# Altium footprint library Crystals.PcbLib: 1 footprints
Each footprint in its own frame and in the unit in brackets; x right, y up, seen from the top. Pads: shape width x height; smd on the part's side, far side on the other; paste and mask are expansions set on the pad; w line width, h text height; cw(c..) or ccw(c..) is an arc to the next point about the centre after c.
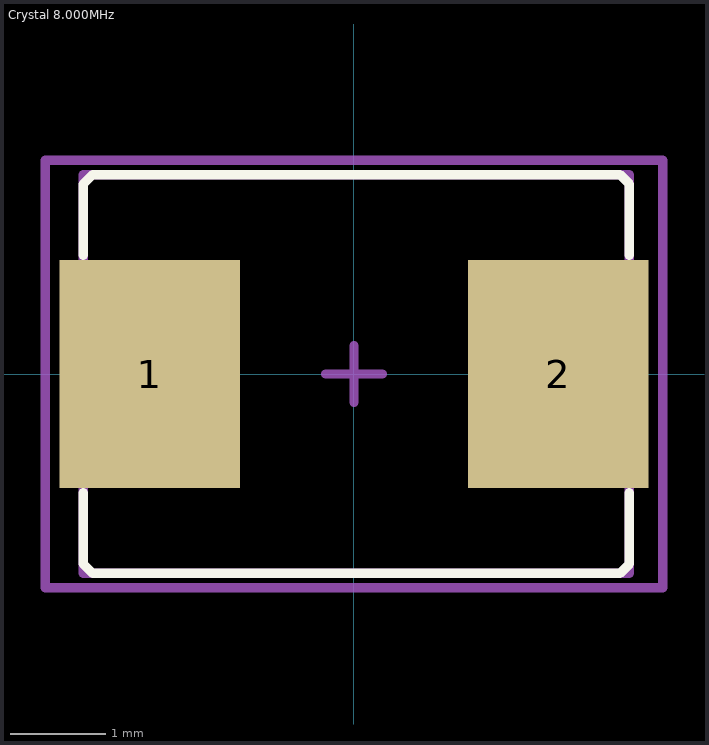
[diagram p0: the footprint, top view; thin cyan lines are the x and y axes]

## Crystal 8.000MHz [mm] "18pF ABM3"
pads (2):
  rect 1.9x2.4 smd mask+0.05: 1(-2.15,0) 2(2.15,0)
Top Overlay:
  lines w0.1: -2.85,-1.25 -2.85,-2 -2.75,-2.1 2.8,-2.1 2.9,-2 2.9,-1.25 ; -2.85,1.25 -2.85,2 -2.75,2.1 2.8,2.1 2.9,2 2.9,1.25
Top 3D Body:
  lines w0.1: -2.85,-2.1 2.9,-2.1 2.9,2.1 -2.85,2.1 -2.85,-2.1
Top Component Center:
  lines w0.1: -0.3,0 0,0 ; 0,-0.3 0,0 ; 0,0.3 0,0 ; 0.3,0 0,0 ; -3.25,-2.25 3.25,-2.25 3.25,2.25 -3.25,2.25 -3.25,-2.25
Top Designator:
  lines w0.1: -3.25,-2.25 -3.25,2.25 3.25,2.25 3.25,-2.25 -3.25,-2.25
  text ".Designator" at -0.85,-0.183 h0.5
3D body "XTAL_ABM3-8000MHZ-D2Y-T_ABR.step": height 1.3, standoff 0, extent -2.839,-2.089 2.889,2.089